# Altium footprint library PcbLib1.PcbLib: 17 footprints (part 1 of 2)
Each footprint in its own frame and in the unit in brackets; x right, y up, seen from the top. Pads: shape width x height; smd on the part's side, far side on the other; paste and mask are expansions set on the pad; w line width, h text height; cw(c..) or ccw(c..) is an arc to the next point about the centre after c.
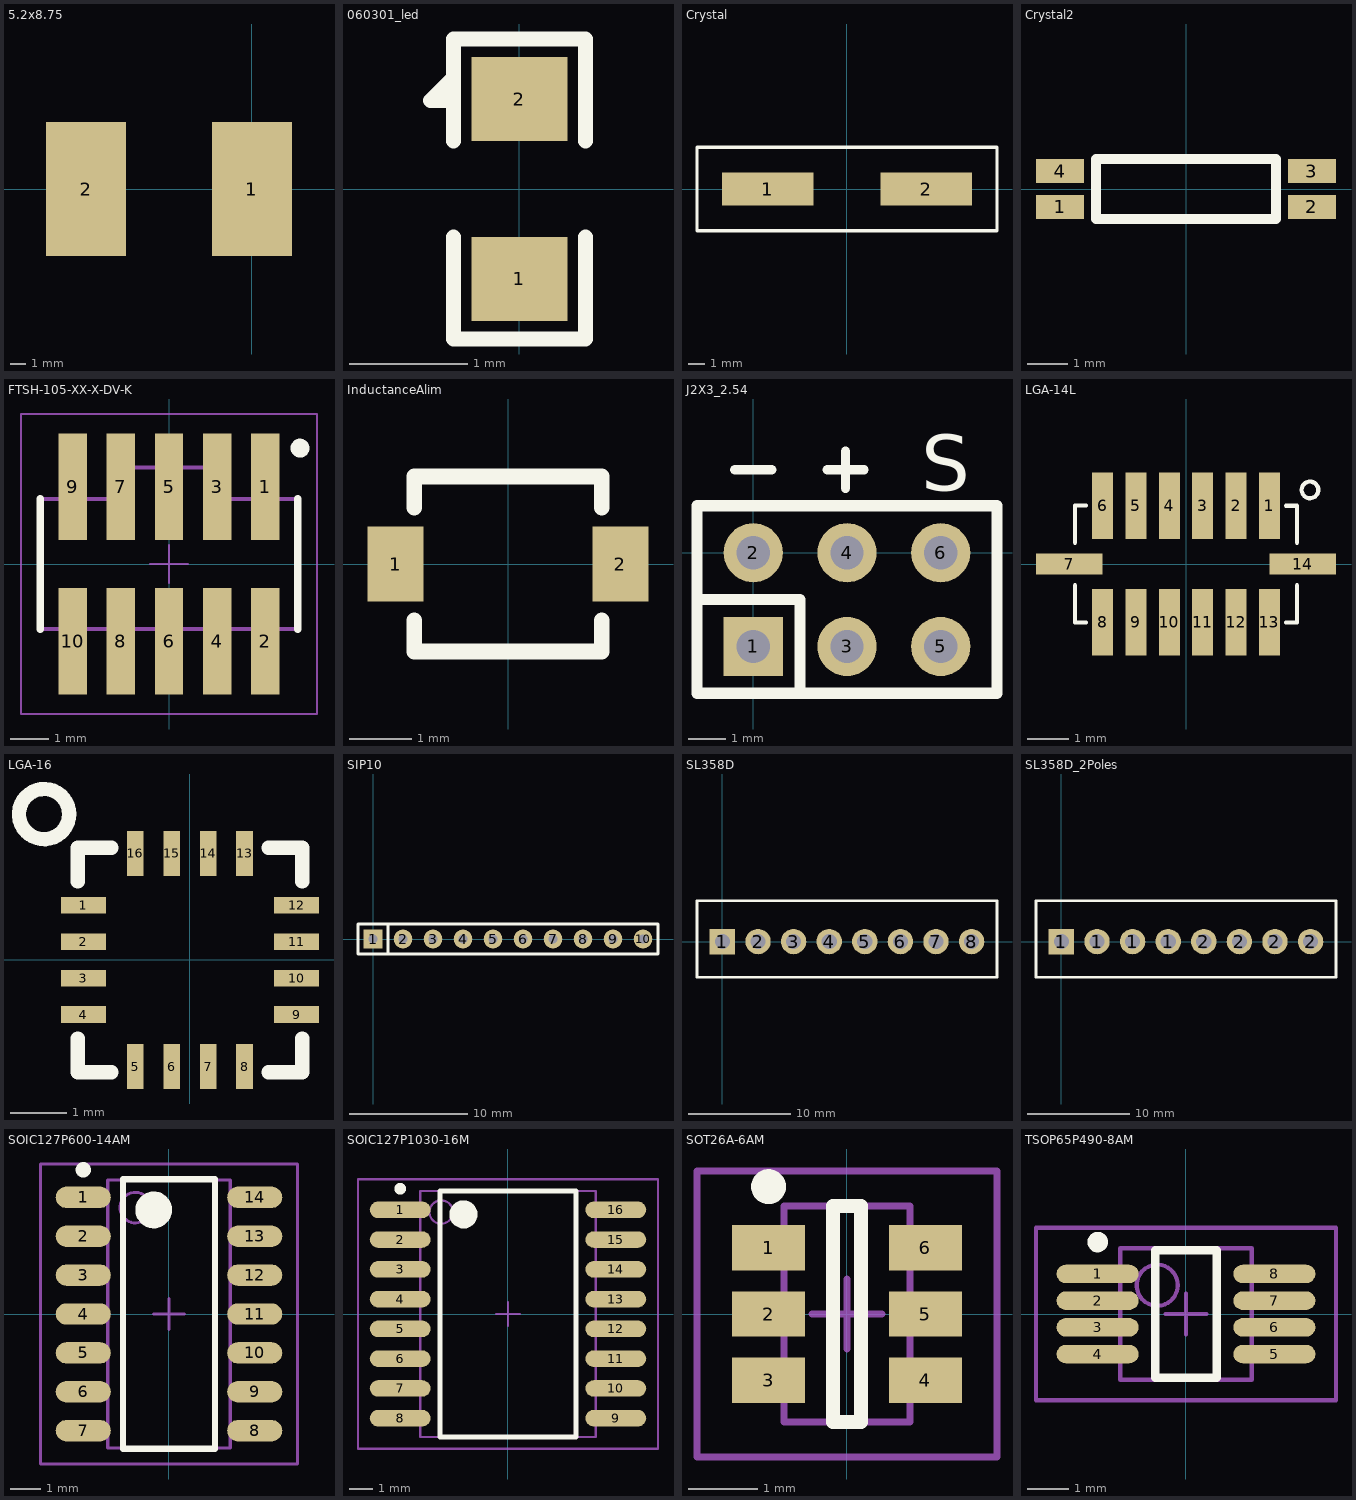
[diagram p0: the footprints below, top view; thin cyan lines are the x and y axes]

## 5.2x8.75 [mm] "PowerResistorFootPrint"
pads (2):
  rect 5.2x8.75 smd: 1(0,0) 2(-10.8,0)

## 060301_led [mil] "LED"
pads (2):
  rect 32.01x27.99 smd: 1(0,-30) 2(0,30)
Top Overlay:
  lines w5: -22,-16 -22,-50 22,-50 22,-16 ; -22,16 -22,50 22,50 22,16 ; -22,29.53 -29.53,29.53 -22,37.06

## Crystal [mm]
pads (2):
  rect 5.5x2 smd: 1(-4.75,0) 2(4.75,0)
Top Overlay:
  lines w0.2: -9,-2.5 -9,0 -9,2.5 9,2.5 9,-2.5 -9,-2.5

## Crystal2 [mm]
height 2.5
pads (4):
  rect 1.2x0.6 smd: 1(-3.15,-0.45) 2(3.15,-0.45) 3(3.15,0.45) 4(-3.15,0.45)
Top Overlay:
  lines w0.254: -2.25,-0.75 2.25,-0.75 2.25,0.75 -2.25,0.75 -2.25,-0.75

## FTSH-105-XX-X-DV-K [mm] "1.27mm pitch, 10 pin, terminal strip; keyed"
height 5.97
pads (10):
  rect 0.75x2.8 smd mask+0: 1(2.54,2.03) 2(2.54,-2.03) 3(1.27,2.03) 4(1.27,-2.03) 5(0,2.03) 6(0,-2.03) 7(-1.27,2.03) 8(-1.27,-2.03) 9(-2.54,2.03) 10(-2.54,-2.03)
Top Overlay:
  circle w0.25: c3.45,3.05 r0.125
  lines w0.2: -3.391,-1.715 -3.391,1.715 ; 3.391,-1.715 3.391,1.715
Mechanical 12:
  lines w0.001: -3.391,-1.715 3.391,-1.715 3.391,1.708 3.384,1.715 1.08,1.715 1.08,2.54 -1.08,2.54 -1.08,1.715 -3.391,1.715 -3.391,-1.715
Mechanical 13:
  lines w0.1: -3.391,-1.708 -3.384,-1.715 ; 3.384,1.715 1.08,1.715 1.08,2.54 -1.08,2.54 -1.08,1.715 -3.391,1.715 -3.391,-1.715 3.391,-1.715 3.391,1.708
  text ".Designator" at 0.254,0.254 h1.52
Mechanical 15:
  lines w0.05: -0.5,0 0.5,0 ; 0,-0.5 0,0.5 ; -3.9,-3.95 3.9,-3.95 3.9,3.95 -3.9,3.95 -3.9,-3.95

## InductanceAlim [mm]
pads (2):
  rect 0.9x1.2 smd: 1(-1.8,0) 2(1.8,0)
Top Overlay:
  lines w0.254: -1.5,-0.9 -1.5,-1.4 1.5,-1.4 1.5,-0.9 ; -1.5,0.9 -1.5,1.4 1.5,1.4 1.5,0.9

## J2X3_2.54 [mm]
pads (6):
  rect 1.6x1.6 hole 0.9: 1(0,-2.54)
  round 1.6 hole 0.9: 2(0,0) 3(2.54,-2.54) 4(2.54,0) 5(5.08,-2.54) 6(5.08,0)
Top Overlay:
  lines w0.254: -0.5,2.25 0.5,2.25 ; 2,2.25 3,2.25 ; 2.5,1.75 2.5,2.75
  lines w0.3: -1.524,-1.27 1.27,-1.27 1.27,-3.81
  lines w0.305: -1.524,-3.81 6.604,-3.81 6.604,1.27 -1.524,1.27 -1.524,-3.81
  text "S" at 4.55,1.675 h1.52

## LGA-14L [mm]
pads (14):
  rect 0.5x1.6 smd: 1(2,1.4) 2(1.2,1.4) 3(0.4,1.4) 4(-0.4,1.4) 5(-1.2,1.4) 6(-2,1.4) 8(-2,-1.4) 9(-1.2,-1.4) 10(-0.4,-1.4) 11(0.4,-1.4) 12(1.2,-1.4) 13(2,-1.4)
  rect 1.6x0.5 smd: 7(-2.8,0) 14(2.8,0)
Top Overlay:
  circle w0.1: c2.975,1.778 r0.2
  lines w0.1: -2.667,-0.511 -2.667,-1.4 -2.4,-1.4 ; -2.667,0.511 -2.667,1.4 -2.4,1.4 ; 2.4,-1.4 2.667,-1.4 2.667,-0.511 ; 2.4,1.397 2.667,1.397 2.667,0.508

## LGA-16 [mm]
pads (16):
  rect 0.8x0.3 smd: 1(-1.9,0.975) 2(-1.9,0.325) 3(-1.9,-0.325) 4(-1.9,-0.975) 9(1.9,-0.975) 10(1.9,-0.325) 11(1.9,0.325) 12(1.9,0.975)
  rect 0.3x0.8 smd: 5(-0.975,-1.9) 6(-0.325,-1.9) 7(0.325,-1.9) 8(0.975,-1.9) 13(0.975,1.9) 14(0.325,1.9) 15(-0.325,1.9) 16(-0.975,1.9)
Top Overlay:
  circle w0.254: c-2.6,2.6 r0.447
  lines w0.254: -2,-1.4 -2,-2 -1.4,-2 ; -2,1.4 -2,2 -1.4,2 ; 1.4,-2 2,-2 2,-1.4 ; 1.4,2 2,2 2,1.4

## SIP10 [mil]
pads (10):
  rect 62x63 hole 31.5: 1(0,0)
  oval 62x63 hole 31.5: 2(100,0) 3(200,0) 4(300,0) 5(400,0) 6(500,0) 7(600,0) 8(700,0) 9(800,0) 10(900,0)
Top Overlay:
  lines w10: 50,-50 50,50 ; -50,-50 -50,50 950,50 950,-50 -50,-50

## SL358D [mm]
pads (8):
  rect 2.5x2.5 hole 1.5: 1(0,0)
  round 2.5 hole 1.5: 2(3.5,0) 3(7,0) 4(10.5,0) 5(14,0) 6(17.5,0) 7(21,0) 8(24.5,0)
Top Overlay:
  lines w0.254: -2.5,-3.5 27,-3.5 27,4 -2.5,4 -2.5,-3.5

## SL358D_2Poles [mm]
pads (8):
  rect 2.5x2.5 hole 1.5: 1(0,0)
  round 2.5 hole 1.5: 1(3.5,0) 1(7,0) 1(10.5,0) 2(14,0) 2(17.5,0) 2(21,0) 2(24.5,0)
Top Overlay:
  lines w0.254: -2.5,-3.5 27,-3.5 27,4 -2.5,4 -2.5,-3.5

## SOIC127P600-14AM [mm] "SOIC, 14-Leads, Body 8.6x3.9mm, Pitch 1.27mm, IPC Low Density"
height 1.73
pads (14):
  oval 1.8x0.7 smd: 1(-2.8,3.81) 2(-2.8,2.54) 3(-2.8,1.27) 4(-2.8,0) 5(-2.8,-1.27) 6(-2.8,-2.54) 7(-2.8,-3.81) 8(2.8,-3.81) 9(2.8,-2.54) 10(2.8,-1.27) 11(2.8,0) 12(2.8,1.27) 13(2.8,2.54) 14(2.8,3.81)
Top Overlay:
  circle w0.6: c-0.5,3.4 r0.3
  circle w0.25: c-2.8,4.71 r0.125
  lines w0.2: -1.5,-4.4 1.5,-4.4 1.5,4.4 -1.5,4.4 -1.5,-4.4
Mechanical 13:
  circle w0.1: c-1.1,3.475 r0.5
  lines w0.1: -2,-4.375 2,-4.375 2,4.375 -2,4.375 -2,-4.375
Mechanical 15:
  lines w0.1: -0.5,0 0.5,0 ; 0,-0.5 0,0.5 ; -4.2,-4.9 4.2,-4.9 4.2,4.9 -4.2,4.9 -4.2,-4.9
3D body: height 1.73, standoff 0, extent -2,-4.375 2,4.375

## SOIC127P1030-16M [mm] "SOIC, 16-Leads, Body 10.3x7.5mm, Pitch 1.27mm, IPC Low Density"
height 2.65
pads (16):
  oval 2.6x0.7 smd: 1(-4.6,4.445) 2(-4.6,3.175) 3(-4.6,1.905) 4(-4.6,0.635) 5(-4.6,-0.635) 6(-4.6,-1.905) 7(-4.6,-3.175) 8(-4.6,-4.445) 9(4.6,-4.445) 10(4.6,-3.175) 11(4.6,-1.905) 12(4.6,-0.635) 13(4.6,0.635) 14(4.6,1.905) 15(4.6,3.175) 16(4.6,4.445)
Top Overlay:
  circle w0.6: c-1.9,4.25 r0.3
  circle w0.25: c-4.6,5.345 r0.125
  lines w0.2: -2.9,-5.25 2.9,-5.25 2.9,5.25 -2.9,5.25 -2.9,-5.25
Mechanical 13:
  circle w0.1: c-2.85,4.35 r0.5
  lines w0.1: -3.75,-5.25 3.75,-5.25 3.75,5.25 -3.75,5.25 -3.75,-5.25
Mechanical 15:
  lines w0.1: -0.5,0 0.5,0 ; 0,-0.5 0,0.5 ; -6.4,-5.75 6.4,-5.75 6.4,5.75 -6.4,5.75 -6.4,-5.75
3D body: height 2.65, standoff 0, extent -3.75,-5.25 3.75,5.25

## SOT26A-6AM [mm]
pads (6):
  rect 1.05x0.65 smd: 1(-1.125,0.95) 2(-1.125,0) 3(-1.125,-0.95) 4(1.125,-0.95) 5(1.125,0) 6(1.125,0.95)
Top Overlay:
  circle w0.25: c-1.125,1.825 r0.125
  lines w0.2: -0.2,-1.55 0.2,-1.55 0.2,1.55 -0.2,1.55 -0.2,-1.55
Mechanical 13:
  lines w0.1: -0.9,-1.55 -0.9,1.55 0.9,1.55 0.9,-1.55 -0.9,-1.55
Mechanical 15:
  lines w0.1: -0.5,0 0.5,0 ; 0,-0.5 0,0.5 ; -2.15,-2.05 -2.15,2.05 2.15,2.05 2.15,-2.05 -2.15,-2.05
3D body: height 0, standoff 0, extent -0.9,-1.55 0.9,1.55

## TSOP65P490-8AM [mm] "TSOP, 8-Leads, Body 3x3mm, Pitch 0.65mm, IPC Low Density"
height 1.1
pads (8):
  oval 2x0.45 smd: 1(-2.15,0.975) 2(-2.15,0.325) 3(-2.15,-0.325) 4(-2.15,-0.975) 5(2.15,-0.975) 6(2.15,-0.325) 7(2.15,0.325) 8(2.15,0.975)
Top Overlay:
  circle w0.25: c-2.15,1.75 r0.125
  lines w0.2: -0.75,-1.55 0.75,-1.55 0.75,1.55 -0.75,1.55 -0.75,-1.55
Mechanical 13:
  circle w0.1: c-0.7,0.7 r0.5
  lines w0.1: -1.6,-1.6 1.6,-1.6 1.6,1.6 -1.6,1.6 -1.6,-1.6
Mechanical 15:
  lines w0.1: -0.5,0 0.5,0 ; 0,-0.5 0,0.5 ; -3.65,-2.1 3.65,-2.1 3.65,2.1 -3.65,2.1 -3.65,-2.1
3D body: height 1.1, standoff 0, extent -1.6,-1.6 1.6,1.6